# Altium schematic symbol library 687 1xx 183 722.SchLib: 16 symbols
Pins are listed as number, name and electrical type; pins without a type are passive.

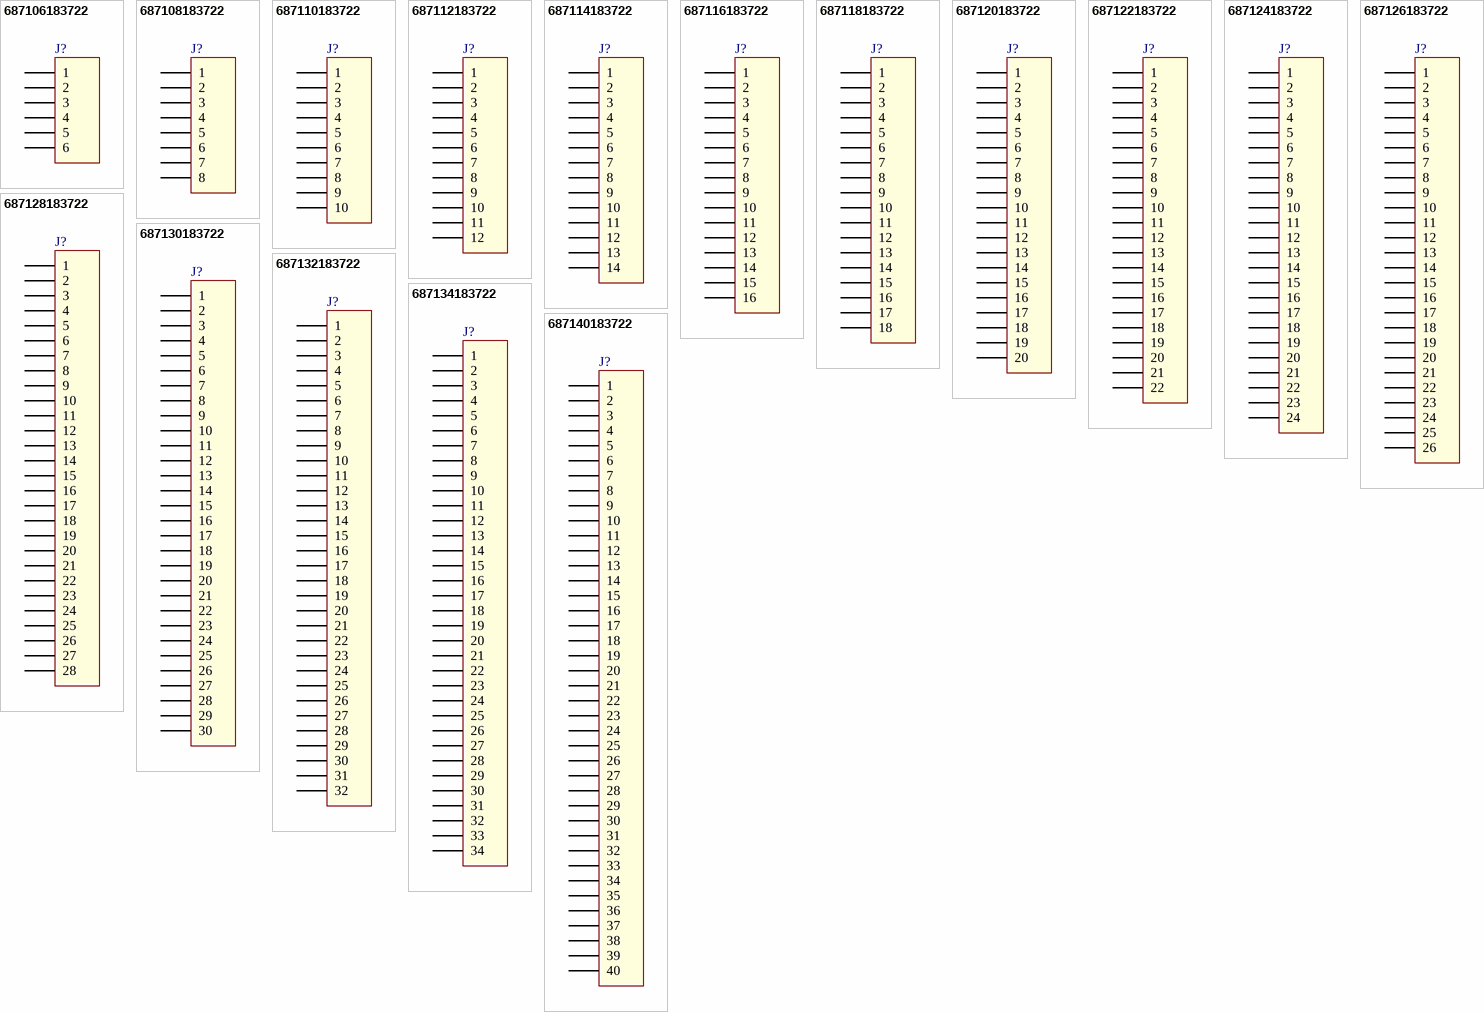
[diagram p0: symbols 687106183722 to 687140183722]

## 687106183722
designator J?
0.50 mm SMT Horizontal Bottom Contact - Low Profile WR-FPC, 6 pins; Part Number: 687106183722; Pitch: 0.5 mm; Pin Number: 6; ComponentLink1Description: Manufacturer; ComponentLink1URL: http://www.we-online.de; ComponentLink2Description: Datasheet; ComponentLink2URL: http://katalog.we-online.com/em/datasheet/687106183722.pdf; Published Date: April 2017; Publisher: Wurth Elektronik
footprint 687106183722 (0.50 mm SMT Horizontal Bottom Contact - Low Profile, 6p)
pins: 1, 2, 3, 4, 5, 6

## 687108183722
designator J?
0.50 mm SMT Horizontal Bottom Contact - Low Profile WR-FPC, 8 pins; Part Number: 687108183722; Pitch: 0.5 mm; Pin Number: 8; ComponentLink1Description: Manufacturer; ComponentLink1URL: http://www.we-online.de; ComponentLink2Description: Datasheet; ComponentLink2URL: http://katalog.we-online.com/em/datasheet/687108183722.pdf; Published Date: April 2017; Publisher: Wurth Elektronik
footprint 687108183722 (0.50 mm SMT Horizontal Bottom Contact - Low Profile, 8p)
pins: 1, 2, 3, 4, 5, 6, 7, 8

## 687110183722
designator J?
0.50 mm SMT Horizontal Bottom Contact - Low Profile WR-FPC, 10 pins; Part Number: 687110183722; Pitch: 0.5 mm; Pin Number: 10; ComponentLink1Description: Manufacturer; ComponentLink1URL: http://www.we-online.de; ComponentLink2Description: Datasheet; ComponentLink2URL: http://katalog.we-online.com/em/datasheet/687110183722.pdf; Published Date: April 2017; Publisher: Wurth Elektronik
footprint 687110183722 (0.50 mm SMT Horizontal Bottom Contact - Low Profile, 10p)
pins: 1, 2, 3, 4, 5, 6, 7, 8, 9, 10

## 687112183722
designator J?
0.50 mm SMT Horizontal Bottom Contact - Low Profile WR-FPC, 12 pins; Part Number: 687112183722; Pitch: 0.5 mm; Pin Number: 12; ComponentLink1Description: Manufacturer; ComponentLink1URL: http://www.we-online.de; ComponentLink2Description: Datasheet; ComponentLink2URL: http://katalog.we-online.com/em/datasheet/687112183722.pdf; Published Date: April 2017; Publisher: Wurth Elektronik
footprint 687112183722 (0.50 mm SMT Horizontal Bottom Contact - Low Profile, 12p)
pins: 1, 2, 3, 4, 5, 6, 7, 8, 9, 10, 11, 12

## 687114183722
designator J?
0.50 mm SMT Horizontal Bottom Contact - Low Profile WR-FPC, 14 pins; Part Number: 687114183722; Pitch: 0.5 mm; Pin Number: 14; ComponentLink1Description: Manufacturer; ComponentLink1URL: http://www.we-online.de; ComponentLink2Description: Datasheet; ComponentLink2URL: http://katalog.we-online.com/em/datasheet/687114183722.pdf; Published Date: April 2017; Publisher: Wurth Elektronik
footprint 687114183722 (0.50 mm SMT Horizontal Bottom Contact - Low Profile, 14p)
pins: 1, 2, 3, 4, 5, 6, 7, 8, 9, 10, 11, 12, 13, 14

## 687116183722
designator J?
0.50 mm SMT Horizontal Bottom Contact - Low Profile WR-FPC, 16 pins; Part Number: 687116183722; Pitch: 0.5 mm; Pin Number: 16; ComponentLink1Description: Manufacturer; ComponentLink1URL: http://www.we-online.de; ComponentLink2Description: Datasheet; ComponentLink2URL: http://katalog.we-online.com/em/datasheet/687116183722.pdf; Published Date: April 2017; Publisher: Wurth Elektronik
footprint 687116183722 (0.50 mm SMT Horizontal Bottom Contact - Low Profile, 16p)
pins: 1, 2, 3, 4, 5, 6, 7, 8, 9, 10, 11, 12, 13, 14, 15, 16

## 687118183722
designator J?
0.50 mm SMT Horizontal Bottom Contact - Low Profile WR-FPC, 18 pins; Part Number: 687118183722; Pitch: 0.5 mm; Pin Number: 18; ComponentLink1Description: Manufacturer; ComponentLink1URL: http://www.we-online.de; ComponentLink2Description: Datasheet; ComponentLink2URL: http://katalog.we-online.com/em/datasheet/687118183722.pdf; Published Date: April 2017; Publisher: Wurth Elektronik
footprint 687118183722 (0.50 mm SMT Horizontal Bottom Contact - Low Profile, 18p)
pins: 1, 2, 3, 4, 5, 6, 7, 8, 9, 10, 11, 12, 13, 14, 15, 16, 17, 18

## 687120183722
designator J?
0.50 mm SMT Horizontal Bottom Contact - Low Profile WR-FPC, 20 pins; Part Number: 687120183722; Pitch: 0.5 mm; Pin Number: 20; ComponentLink1Description: Manufacturer; ComponentLink1URL: http://www.we-online.de; ComponentLink2Description: Datasheet; ComponentLink2URL: http://katalog.we-online.com/em/datasheet/687120183722.pdf; Published Date: April 2017; Publisher: Wurth Elektronik
footprint 687120183722 (0.50 mm SMT Horizontal Bottom Contact - Low Profile, 20p)
pins: 1, 2, 3, 4, 5, 6, 7, 8, 9, 10, 11, 12, 13, 14, 15, 16, 17, 18, 19, 20

## 687122183722
designator J?
0.50 mm SMT Horizontal Bottom Contact - Low Profile WR-FPC, 22 pins; Part Number: 687122183722; Pitch: 0.5 mm; Pin Number: 22; ComponentLink1Description: Manufacturer; ComponentLink1URL: http://www.we-online.de; ComponentLink2Description: Datasheet; ComponentLink2URL: http://katalog.we-online.com/em/datasheet/687122183722.pdf; Published Date: April 2017; Publisher: Wurth Elektronik
footprint 687122183722 (0.50 mm SMT Horizontal Bottom Contact - Low Profile, 22p)
pins: 1, 2, 3, 4, 5, 6, 7, 8, 9, 10, 11, 12, 13, 14, 15, 16, 17, 18, 19, 20, 21, 22

## 687124183722
designator J?
0.50 mm SMT Horizontal Bottom Contact - Low Profile WR-FPC, 24 pins; Part Number: 687124183722; Pitch: 0.5 mm; Pin Number: 24; ComponentLink1Description: Manufacturer; ComponentLink1URL: http://www.we-online.de; ComponentLink2Description: Datasheet; ComponentLink2URL: http://katalog.we-online.com/em/datasheet/687124183722.pdf; Published Date: April 2017; Publisher: Wurth Elektronik
footprint 687124183722 (0.50 mm SMT Horizontal Bottom Contact - Low Profile, 24p)
pins: 1, 2, 3, 4, 5, 6, 7, 8, 9, 10, 11, 12, 13, 14, 15, 16, 17, 18, 19, 20, 21, 22, 23, 24

## 687126183722
designator J?
0.50 mm SMT Horizontal Bottom Contact - Low Profile WR-FPC, 26 pins; Part Number: 687126183722; Pitch: 0.5 mm; Pin Number: 26; ComponentLink1Description: Manufacturer; ComponentLink1URL: http://www.we-online.de; ComponentLink2Description: Datasheet; ComponentLink2URL: http://katalog.we-online.com/em/datasheet/687126183722.pdf; Published Date: April 2017; Publisher: Wurth Elektronik
footprint 687126183722 (0.50 mm SMT Horizontal Bottom Contact - Low Profile, 26p)
pins: 1, 2, 3, 4, 5, 6, 7, 8, 9, 10, 11, 12, 13, 14, 15, 16, 17, 18, 19, 20, 21, 22, 23, 24, 25, 26

## 687128183722
designator J?
0.50 mm SMT Horizontal Bottom Contact - Low Profile WR-FPC, 28 pins; Part Number: 687128183722; Pitch: 0.5 mm; Pin Number: 28; ComponentLink1Description: Manufacturer; ComponentLink1URL: http://www.we-online.de; ComponentLink2Description: Datasheet; ComponentLink2URL: http://katalog.we-online.com/em/datasheet/687128183722.pdf; Published Date: April 2017; Publisher: Wurth Elektronik
footprint 687128183722 (0.50 mm SMT Horizontal Bottom Contact - Low Profile, 28p)
pins: 1, 2, 3, 4, 5, 6, 7, 8, 9, 10, 11, 12, 13, 14, 15, 16, 17, 18, 19, 20, 21, 22, 23, 24, 25, 26, 27, 28

## 687130183722
designator J?
0.50 mm SMT Horizontal Bottom Contact - Low Profile WR-FPC, 30 pins; Part Number: 687130183722; Pitch: 0.5 mm; Pin Number: 30; ComponentLink1Description: Manufacturer; ComponentLink1URL: http://www.we-online.de; ComponentLink2Description: Datasheet; ComponentLink2URL: http://katalog.we-online.com/em/datasheet/687130183722.pdf; Published Date: April 2017; Publisher: Wurth Elektronik
footprint 687130183722 (0.50 mm SMT Horizontal Bottom Contact - Low Profile, 30p)
pins: 1, 2, 3, 4, 5, 6, 7, 8, 9, 10, 11, 12, 13, 14, 15, 16, 17, 18, 19, 20, 21, 22, 23, 24, 25, 26, 27, 28, 29, 30

## 687132183722
designator J?
0.50 mm SMT Horizontal Bottom Contact - Low Profile WR-FPC, 32 pins; Part Number: 687132183722; Pitch: 0.5 mm; Pin Number: 32; ComponentLink1Description: Manufacturer; ComponentLink1URL: http://www.we-online.de; ComponentLink2Description: Datasheet; ComponentLink2URL: http://katalog.we-online.com/em/datasheet/687132183722.pdf; Published Date: April 2017; Publisher: Wurth Elektronik
footprint 687132183722 (0.50 mm SMT Horizontal Bottom Contact - Low Profile, 32p)
pins: 1, 2, 3, 4, 5, 6, 7, 8, 9, 10, 11, 12, 13, 14, 15, 16, 17, 18, 19, 20, 21, 22, 23, 24, 25, 26, 27, 28, 29, 30, 31, 32

## 687134183722
designator J?
0.50 mm SMT Horizontal Bottom Contact - Low Profile WR-FPC, 34 pins; Part Number: 687134183722; Pitch: 0.5 mm; Pin Number: 34; ComponentLink1Description: Manufacturer; ComponentLink1URL: http://www.we-online.de; ComponentLink2Description: Datasheet; ComponentLink2URL: http://katalog.we-online.com/em/datasheet/687134183722.pdf; Published Date: April 2017; Publisher: Wurth Elektronik
footprint 687134183722 (0.50 mm SMT Horizontal Bottom Contact - Low Profile, 34p)
pins: 1, 2, 3, 4, 5, 6, 7, 8, 9, 10, 11, 12, 13, 14, 15, 16, 17, 18, 19, 20, 21, 22, 23, 24, 25, 26, 27, 28, 29, 30, 31, 32, 33, 34

## 687140183722
designator J?
0.50 mm SMT Horizontal Bottom Contact - Low Profile WR-FPC, 40 pins; Part Number: 687140183722; Pitch: 0.5 mm; Pin Number: 40; ComponentLink1Description: Manufacturer; ComponentLink1URL: http://www.we-online.de; ComponentLink2Description: Datasheet; ComponentLink2URL: http://katalog.we-online.com/em/datasheet/687140183722.pdf; Published Date: April 2017; Publisher: Wurth Elektronik
footprint 687140183722 (0.50 mm SMT Horizontal Bottom Contact - Low Profile, 40p)
pins: 1, 2, 3, 4, 5, 6, 7, 8, 9, 10, 11, 12, 13, 14, 15, 16, 17, 18, 19, 20, 21, 22, 23, 24, 25, 26, 27, 28, 29, 30, 31, 32, 33, 34, 35, 36, 37, 38, 39, 40